# Altium schematic symbol library BSAC.SchLib: 29 symbols
Pins are listed as number, name and electrical type; pins without a type are passive.

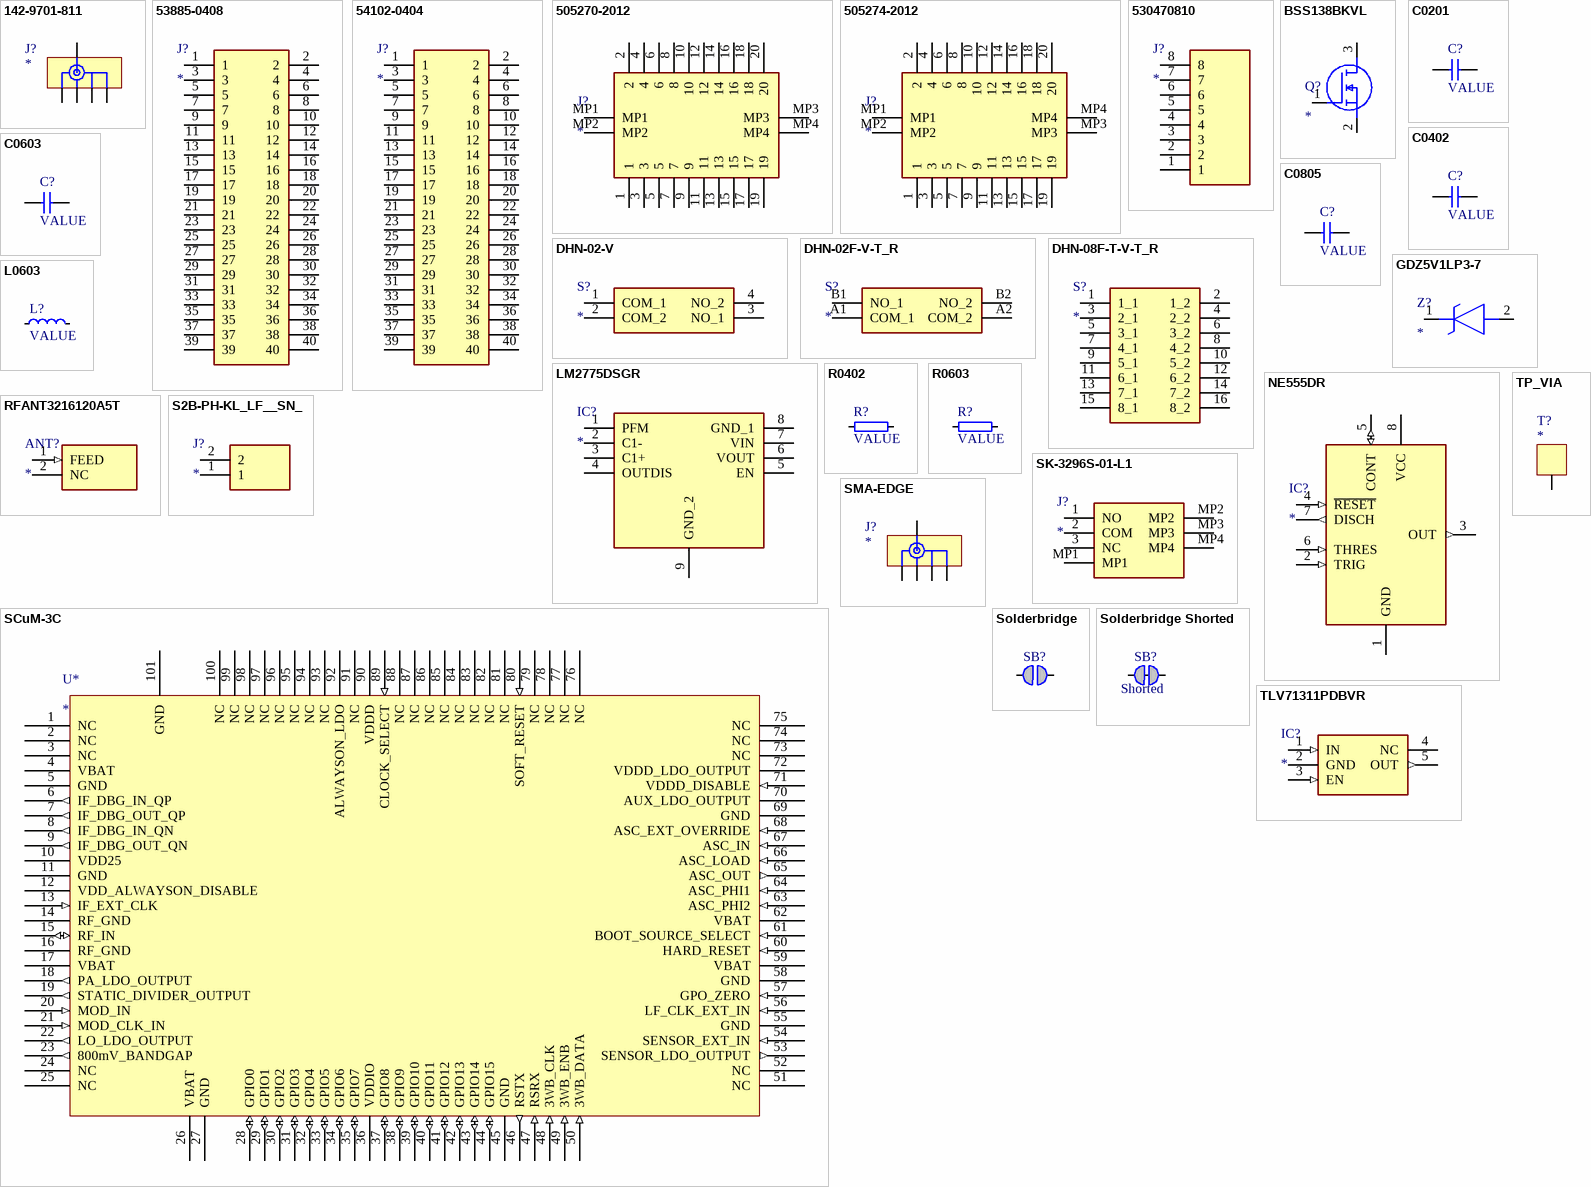
[diagram p0: symbols 142-9701-811 to TP_VIA]

## 142-9701-811
designator J?
Non-Magnetic / CONN SMA JACK STR 50OHM EDGE MNT
footprint CON-001-6.35X9.5/SMA-EDGE-SHORT-PIN
pins: 1, 2, 3, 4, 5

## 53885-0408
designator J?
0.50mm Pitch SlimStack Plug, Surface Mount, Dual Row, Vertical, 2.50mm Stack Height, without Solder Tab, 40 Circuits; Manufacturer_Name: Molex; Manufacturer_Part_Number: 53885-0408; System: Connector; Datasheet Link: https://componentsearchengine.com/Datasheets/1/53885-0408.pdf; Height: 1.68mm; Mouser Part Number: 538-53885-0408; Mouser Price/Stock: https://www.mouser.co.uk/ProductDetail/Molex/53885-0408?qs=OdNwOVlk5%2FhjFAQwfbus0w%3D%3D
footprint 538850408
pins: 1, 2, 3, 4, 5, 6, 7, 8, 9, 10, 11, 12, 13, 14, 15, 16, 17, 18, 19, 20, 21, 22, 23, 24, 25, 26, 27, 28, 29, 30, 31, 32, 33, 34, 35, 36, 37, 38, 39, 40

## 54102-0404
designator J?
0.50mm Pitch SlimStack Receptacle, Surface Mount, Dual Row, Vertical, 2.50mm Stacking Height, Gold Plating with Nickel Barrier, 40 Circuits; Manufacturer_Name: Molex; Manufacturer_Part_Number: 54102-0404; System: Connector; Datasheet Link: https://www.molex.com/pdm_docs/sd/541020404_sd.pdf; Height: 2.2mm; Mouser Part Number: 538-54102-0404; Mouser Price/Stock: https://www.mouser.co.uk/ProductDetail/Molex/54102-0404?qs=QVBMgXxBiLzLp7HESxZcuA%3D%3D
footprint 541020404
pins: 1, 2, 3, 4, 5, 6, 7, 8, 9, 10, 11, 12, 13, 14, 15, 16, 17, 18, 19, 20, 21, 22, 23, 24, 25, 26, 27, 28, 29, 30, 31, 32, 33, 34, 35, 36, 37, 38, 39, 40

## 505270-2012
designator J?
Connector; Manufacturer_Name: Molex; Manufacturer_Part_Number: 505270-2012; Datasheet Link: https://componentsearchengine.com/Datasheets/1/505270-2012.pdf; Height: 0.78mm; Mouser Part Number: 538-505270-2012; Mouser Price/Stock: https://www.mouser.co.uk/ProductDetail/Molex/505270-2012?qs=byeeYqUIh0Osc300CbctQw%3D%3D
footprint 5052702012
pins: 1, 2, 3, 4, 5, 6, 7, 8, 9, 10, 11, 12, 13, 14, 15, 16, 17, 18, 19, 20, MP1, MP2, MP3, MP4

## 505274-2012
designator J?
Connector; Manufacturer_Name: Molex; Manufacturer_Part_Number: 505274-2012; Datasheet Link: https://pl.mouser.com/datasheet/2/276/2/5052742012_PCB_HEADERS-1914541.pdf; Height: 0.75mm; Mouser Part Number: 538-505274-2012; Mouser Price/Stock: https://www.mouser.co.uk/ProductDetail/Molex/505274-2012?qs=byeeYqUIh0Pyik7DsuIGQQ%3D%3D
footprint 5052742012
pins: 1, 2, 3, 4, 5, 6, 7, 8, 9, 10, 11, 12, 13, 14, 15, 16, 17, 18, 19, 20, MP1, MP2, MP3, MP4

## 530470810
designator J?
Connector; Manufacturer_Name: Molex; Manufacturer_Part_Number: 530470810; Datasheet Link: https://www.molex.com/pdm_docs/sd/530470210_sd.pdf; Height: 4.2mm
footprint 530470810
pins: 1, 2, 3, 4, 5, 6, 7, 8

## BSS138BKVL
designator Q?
MOSFET (N-Channel); Manufacturer_Name: Nexperia; Manufacturer_Part_Number: BSS138BKVL; Datasheet Link: https://assets.nexperia.com/documents/data-sheet/BSS138BK.pdf; Height: 1.1mm; Mouser Part Number: 771-BSS138BKVL; Mouser Price/Stock: https://www.mouser.co.uk/ProductDetail/Nexperia/BSS138BKVL?qs=45Avz0nZxhsC3lw2Q7S%2FBA%3D%3D; Arrow Part Number: BSS138BKVL; Arrow Price/Stock: https://www.arrow.com/en/products/bss138bkvl/nexperia?region=europe
footprint SOT95P230X110-3N
pins: 1 G, 2 S, 3 D

## C0201
designator C?, comment VALUE
Capacitor, 0201; Part Number: C0201-0.5p; Manufacturer: N.A.; Note: 50V; Pad Count: 2; Manufacturer Part Number: N.A.; LatestRevisionDate: 2018-10-22; Published: 2014-11-13; Value: VALUE; Artikkelnr Noca: N.A.; Footprint Doc: 0201; Part number IPS: N.A.; ComponentLink1Description: Datasheet; ComponentLink1URL: N.A.; ComponentLink2Description: Supplier link; ComponentLink2URL: N.A.; HelpURL: N.A.; Supplier 1: N.A.; Supplier Part Number 1: N.A.; Supplier 2: N.A.; Supplier Part Number 2: N.A.; PartId: 100200008; Component Class: Capacitors; Author: rsk; Part number Norautron: N.A.
footprint 0201
pins: 1, 2

## C0402
designator C?, comment VALUE
Capacitor, 0402, X5R, ±20%; Part Number: C0402-4µ7; Manufacturer: N.A.; Part number IPS: 00000001251, 00000007165; Note: 10V; Artikkelnr Noca: 20039482; Pad Count: 2; Manufacturer Part Number: N.A.; LatestRevisionDate: 2017-11-09; Published: 2009-05-08; Value: VALUE; Footprint Doc: 0402; ComponentLink1Description: Datasheet; ComponentLink1URL: N.A.; ComponentLink2Description: Supplier link; ComponentLink2URL: N.A.; HelpURL: N.A.; Supplier 1: Digi-Key; Supplier Part Number 1: 490-13252-1-ND; Supplier 2: N.A.; Supplier Part Number 2: N.A.; PartId: 100200193; Component Class: Capacitors; Author: rsk; Part number Norautron: N.A.
footprint 0402
pins: 1, 2

## C0603
designator C?, comment VALUE
Capacitor, 0603, X5R, ±10%; Part Number: C0603-4µ7; Manufacturer: N.A.; Part number IPS: 00000007783; Note: 6.3V; Artikkelnr Noca: 20069060; Pad Count: 2; Manufacturer Part Number: N.A.; LatestRevisionDate: 2009-11-23; Published: 2009-05-08; Value: VALUE; Footprint Doc: 0603; ComponentLink1Description: Datasheet; ComponentLink1URL: N.A.; ComponentLink2Description: Supplier link; ComponentLink2URL: N.A.; HelpURL: N.A.; Supplier 1: N.A.; Supplier Part Number 1: N.A.; Supplier 2: N.A.; Supplier Part Number 2: N.A.; PartId: 100200274; Component Class: Capacitors; Author: rsk; Part number Norautron: N.A.
footprint 0603
pins: 1, 2

## C0805
designator C?, comment VALUE
Capacitor, 0805; Part Number: C0603-4µ7; Manufacturer: N.A.; Part number IPS: 00000007783; Note: 6.3V; Artikkelnr Noca: 20069060; Pad Count: 2; Manufacturer Part Number: N.A.; LatestRevisionDate: 2009-11-23; Published: 2009-05-08; Value: VALUE; Footprint Doc: 0603; ComponentLink1Description: Datasheet; ComponentLink1URL: N.A.; ComponentLink2Description: Supplier link; ComponentLink2URL: N.A.; HelpURL: N.A.; Supplier 1: N.A.; Supplier Part Number 1: N.A.; Supplier 2: N.A.; Supplier Part Number 2: N.A.; PartId: 100200274; Component Class: Capacitors; Author: rsk; Part number Norautron: N.A.
footprint 0805
pins: 1, 2

## DHN-02-V
designator S?
Switch; Manufacturer_Name: Diptronics; Manufacturer_Part_Number: DHN-02-V; Datasheet Link: https://componentsearchengine.com/Datasheets/1/DHN-02-V.pdf; Height: 1.65mm; Mouser Part Number: 113-DHN-02-V; Mouser Price/Stock: https://www.mouser.co.uk/ProductDetail/Diptronics/DHN-02-V?qs=gTYE2QTfZfS1rK3VAZw1uQ%3D%3D
footprint SOIC127P670X165-4N
pins: 1 COM_1, 2 COM_2, 3 NO_1, 4 NO_2

## DHN-02F-V-T_R
designator S?
Switch; Manufacturer_Name: Diptronics; Manufacturer_Part_Number: DHN-02F-V-T/R; Description: DIP Switches / SIP Switches Half Pitch Dip switch 1.6mm height; Datasheet Link: https://www.mouser.com/datasheet/2/910/377_DHNF-1571321.pdf; Height: 1.65mm; Mouser Part Number: 113-DHN02FVTR; Mouser Price/Stock: https://www.mouser.co.uk/ProductDetail/Diptronics/DHN-02F-V-T-R?qs=MLItCLRbWsyqCqWUbs6C5Q%3D%3D
footprint DHN02FVTR
pins: A1 COM_1, A2 COM_2, B1 NO_1, B2 NO_2

## DHN-08F-T-V-T_R
designator S?
Switch; Manufacturer_Name: Diptronics; Manufacturer_Part_Number: DHN-08F-T-V-T/R; Datasheet Link: https://www.mouser.com/datasheet/2/910/377_DHNF-1571321.pdf; Height: 1.53mm; Mouser Part Number: 113-DHN08FTVTR; Mouser Price/Stock: https://www.mouser.co.uk/ProductDetail/Diptronics/DHN-08F-T-V-T-R?qs=MLItCLRbWsx18ED%2FADfjTQ%3D%3D
footprint DHN08FTVTR
pins: 1 1_1, 2 1_2, 3 2_1, 4 2_2, 5 3_1, 6 3_2, 7 4_1, 8 4_2, 9 5_1, 10 5_2, 11 6_1, 12 6_2, 13 7_1, 14 7_2, 15 8_1, 16 8_2

## GDZ5V1LP3-7
designator Z?
Zener Diode; Manufacturer_Name: Diodes Incorporated; Manufacturer_Part_Number: GDZ5V1LP3-7; Datasheet Link: https://www.diodes.com//assets/Datasheets/GDZxVxLP3.pdf; Height: 0mm; Mouser Part Number: 621-GDZ5V1LP3-7; Mouser Price/Stock: https://www.mouser.co.uk/ProductDetail/Diodes-Incorporated/GDZ5V1LP3-7?qs=qY%252BJ5l%2FLT%252BQt9Mx1taPzfg%3D%3D; Arrow Part Number: GDZ5V1LP3-7; Arrow Price/Stock: https://www.arrow.com/en/products/gdz5v1lp3-7/diodes-incorporated?region=nac
footprint GDZ3V3LP37
pins: 1 K, 2 A

## L0603
designator L?, comment VALUE
Inductor, 0603; Part Number: R0201-10k; Manufacturer: N.A.; Part number IPS: 00000001255; Note: Chip Res 1%; Pad Count: 2; Manufacturer Part Number: N.A.; LatestRevisionDate: 2014-11-13; Published: 2014-11-13; Value: VALUE; Artikkelnr Noca: N.A.; Footprint Doc: 0201; ComponentLink1Description: Datasheet; ComponentLink1URL: N.A.; ComponentLink2Description: Supplier link; ComponentLink2URL: N.A.; HelpURL: N.A.; Supplier 1: N.A.; Supplier Part Number 1: N.A.; Supplier 2: N.A.; Supplier Part Number 2: N.A.; PartId: 100100065; Component Class: Resistors; Author: rsk; Part number Norautron: N.A.
footprint 0603
pins: 1, 2

## LM2775DSGR
designator IC?
Integrated Circuit; Manufacturer_Name: Texas Instruments; Manufacturer_Part_Number: LM2775DSGR; Datasheet Link: http://www.ti.com/lit/ds/symlink/lm2775.pdf; Height: 0.8mm; Mouser Part Number: 595-LM2775DSGR; Mouser Price/Stock: https://www.mouser.co.uk/ProductDetail/Texas-Instruments/LM2775DSGR?qs=GURawfaeGuBqI9Vb8ZKJyg%3D%3D; Arrow Part Number: LM2775DSGR; Arrow Price/Stock: https://www.arrow.com/en/products/lm2775dsgr/texas-instruments
footprint SON50P200X200X80-9N
pins: 1 PFM, 2 C1-, 3 C1+, 4 OUTDIS, 5 EN, 6 VOUT, 7 VIN, 8 GND_1, 9 GND_2

## NE555DR
designator IC?
Integrated Circuit; Manufacturer_Name: Texas Instruments; Manufacturer_Part_Number: NE555DR; Datasheet Link: http://www.ti.com/lit/ds/symlink/ne555.pdf; Height: 1.75mm; Mouser Part Number: 595-NE555DR; Mouser Price/Stock: https://www.mouser.com/Search/Refine.aspx?Keyword=595-NE555DR; RS Part Number: 1218414; RS Price/Stock: http://uk.rs-online.com/web/p/products/1218414
footprint SOIC127P600X175-8N
pins: 1 GND (power), 2 TRIG (in), 3 OUT (out), 4 ~{RESET} (in), 5 CONT (io), 6 THRES (in), 7 DISCH (out), 8 VCC (power)

## R0402
designator R?, comment VALUE
Resistor, 0402, ±1%, 0.05W; Part Number: R0201-10k; Manufacturer: N.A.; Part number IPS: 00000001255; Note: Chip Res 1%; Pad Count: 2; Manufacturer Part Number: N.A.; LatestRevisionDate: 2014-11-13; Published: 2014-11-13; Value: VALUE; Artikkelnr Noca: N.A.; Footprint Doc: 0201; ComponentLink1Description: Datasheet; ComponentLink1URL: N.A.; ComponentLink2Description: Supplier link; ComponentLink2URL: N.A.; HelpURL: N.A.; Supplier 1: N.A.; Supplier Part Number 1: N.A.; Supplier 2: N.A.; Supplier Part Number 2: N.A.; PartId: 100100065; Component Class: Resistors; Author: rsk; Part number Norautron: N.A.
footprint 0402
pins: 1, 2

## R0603
designator R?, comment VALUE
Resistor, 0603; Part Number: R0201-10k; Manufacturer: N.A.; Part number IPS: 00000001255; Note: Chip Res 1%; Pad Count: 2; Manufacturer Part Number: N.A.; LatestRevisionDate: 2014-11-13; Published: 2014-11-13; Value: VALUE; Artikkelnr Noca: N.A.; Footprint Doc: 0201; ComponentLink1Description: Datasheet; ComponentLink1URL: N.A.; ComponentLink2Description: Supplier link; ComponentLink2URL: N.A.; HelpURL: N.A.; Supplier 1: N.A.; Supplier Part Number 1: N.A.; Supplier 2: N.A.; Supplier Part Number 2: N.A.; PartId: 100100065; Component Class: Resistors; Author: rsk; Part number Norautron: N.A.
footprint 0603
pins: 1, 2

## RFANT3216120A5T
designator ANT?
Antenna; Manufacturer_Name: Walsin Technology Corporation; Manufacturer_Part_Number: RFANT3216120A5T; Datasheet Link: http://www.passivecomponent.com/wp-content/uploads/2013/12/ASC_RFANT3216120A5T_V09.pdf; Height: 1.3mm; Mouser Part Number: 791-RFANT3216120A5T; Mouser Price/Stock: https://www.mouser.co.uk/ProductDetail/Walsin/RFANT3216120A5T?qs=L3QzcrVjv97%252B5sRaX3g2QQ%3D%3D; Arrow Part Number: RFANT3216120A5T; Arrow Price/Stock: http://www.arrow.com/en/products/rfant3216120a5t/walsin-technology-corporation
footprint ANTC3216X130N
pins: 1 FEED (in), 2 NC

## S2B-PH-KL_LF__SN_
designator J?
Connector; Manufacturer_Name: JST (JAPAN SOLDERLESS TERMINALS); Manufacturer_Part_Number: S2B-PH-KL(LF)(SN); Datasheet Link: https://www.jst-mfg.com/product/pdf/eng/ePH.pdf; Height: 4.8mm
footprint S2BPHKLLFSN
pins: 1, 2

## SCuM-3C
designator U*
footprint SCUM3C_BareDie (SCuM-3C Bare Die package for wire bonding)
footprint QFN40P1200X1200X100_HS-101N (QFN, 100-Leads, Body 12.00x12.00mm, Pitch 0.40mm, Thermal Pad 10.10x10.10mm, IPC Medium Density)
pins: 1 NC, 2 NC, 3 NC, 4 VBAT (power), 5 GND (power), 6 IF_DBG_IN_QP (out), 7 IF_DBG_OUT_QP (out), 8 IF_DBG_IN_QN (out), 9 IF_DBG_OUT_QN (out), 10 VDD25 (power), 11 GND (power), 12 VDD_ALWAYSON_DISABLE (power), 13 IF_EXT_CLK (in), 14 RF_GND (power), 15 RF_IN (io), 16 RF_GND (power), 17 VBAT (power), 18 PA_LDO_OUTPUT (out), 19 STATIC_DIVIDER_OUTPUT (out), 20 MOD_IN (in), 21 MOD_CLK_IN (in), 22 LO_LDO_OUTPUT (out), 23 800mV_BANDGAP (out), 24 NC, 25 NC, 26 VBAT (power), 27 GND (power), 28 GPIO0 (io), 29 GPIO1 (io), 30 GPIO2 (io), 31 GPIO3 (io), 32 GPIO4 (io), 33 GPIO5 (io), 34 GPIO6 (io), 35 GPIO7 (io), 36 VDDIO (power), 37 GPIO8 (io), 38 GPIO9 (io), 39 GPIO10 (io), 40 GPIO11 (io), 41 GPIO12 (io), 42 GPIO13 (io), 43 GPIO14 (io), 44 GPIO15 (io), 45 GND (power), 46 RSTX (out), 47 RSRX (in), 48 3WB_CLK (in), 49 3WB_ENB (in), 50 3WB_DATA (in), 51 NC, 52 NC, 53 SENSOR_LDO_OUTPUT (out), 54 SENSOR_EXT_IN (in), 55 GND (power), 56 LF_CLK_EXT_IN (in), 57 GPO_ZERO (in), 58 GND (power), 59 VBAT (power), 60 HARD_RESET (in), 61 BOOT_SOURCE_SELECT (in), 62 VBAT (power), 63 ASC_PHI2 (in), 64 ASC_PHI1 (in), 65 ASC_OUT (out), 66 ASC_LOAD (in), 67 ASC_IN (in), 68 ASC_EXT_OVERRIDE (in), 69 GND (power), 70 AUX_LDO_OUTPUT (power), 71 VDDD_DISABLE (in), 72 VDDD_LDO_OUTPUT (power), 73 NC, 74 NC, 75 NC, 76 NC, 77 NC, 78 NC, 79 NC, 80 SOFT_RESET (in), 81 NC, 82 NC, 83 NC, 84 NC, 85 NC, 86 NC, 87 NC, 88 NC, 89 CLOCK_SELECT (in), 90 VDDD (power), 91 NC, 92 ALWAYSON_LDO (power), 93 NC, 94 NC, 95 NC, 96 NC, 97 NC, 98 NC, 99 NC, 100 NC, 101 GND (power)

## SK-3296S-01-L1
designator J?
Connector; Manufacturer_Name: XKB Connectivity; Manufacturer_Part_Number: SK-3296S-01-L1; Datasheet Link: https://datasheet.lcsc.com/szlcsc/XKB-SK-3296S-01-L1_C319020.pdf; Height: 1.4mm
footprint SK3296S01L1
pins: 1 NO, 2 COM, 3 NC, MP1, MP2, MP3, MP4

## SMA-EDGE
designator J?
Non-Magnetic / CONN SMA JACK STR 50OHM EDGE MNT
footprint RF2-143-T-17-50-G
pins: 1, 2, 3, 4, 5

## Solderbridge
designator SB?  (value not drawn)  (no BOM)
Manufacturer: N.A.; Pad Count: 2; Part Number: Solderbridge; Manufacturer Part Number: N.A.; Footprint Doc: Solderbridge; LatestRevisionDate: 2009-12-14; Published: 2009-12-14; Value: Solderbridge; Note: N.A.; Artikkelnr Noca: N.A.; Part number IPS: N.A.; ComponentLink1Description: Datasheet; ComponentLink1URL: N.A.; ComponentLink2Description: Supplier link; ComponentLink2URL: N.A.; HelpURL: N.A.; Supplier 1: N.A.; Supplier Part Number 1: N.A.; Supplier 2: N.A.; Supplier Part Number 2: N.A.; PartId: 100500458; Component Class: Connectors; Author: rsk; Part number Norautron: N.A.
footprint Solderbridge
pins: 1 0, 2 1

## Solderbridge Shorted
designator SB?, comment Shorted  (net tie, no BOM)
Shorted Solderbridge; Part Number: Solderbridge Shorted; Manufacturer: N.A.; Pad Count: 2; Manufacturer Part Number: N.A.; Footprint Doc: Solderbridge_Shorted; LatestRevisionDate: 2012-08-07; Published: 2012-08-07; Value: Shorted; Note: N.A.; Artikkelnr Noca: N.A.; Part number IPS: N.A.; ComponentLink1Description: Datasheet; ComponentLink1URL: N.A.; ComponentLink2Description: Supplier link; ComponentLink2URL: N.A.; HelpURL: N.A.; Supplier 1: N.A.; Supplier Part Number 1: N.A.; Supplier 2: N.A.; Supplier Part Number 2: N.A.; PartId: 100500459; Component Class: Connectors; Author: rsk; Part number Norautron: N.A.
footprint Solderbridge_Shorted
pins: 1 0, 2 1

## TLV71311PDBVR
designator IC?
Integrated Circuit; Manufacturer_Name: Texas Instruments; Manufacturer_Part_Number: TLV71311PDBVR; Datasheet Link: http://www.ti.com/lit/gpn/tlv713p; Height: 1.45mm; Mouser Part Number: 595-TLV71311PDBVR; Mouser Price/Stock: https://www.mouser.com/Search/Refine.aspx?Keyword=595-TLV71311PDBVR; Arrow Part Number: TLV71311PDBVR; Arrow Price/Stock: https://www.arrow.com/en/products/tlv71311pdbvr/texas-instruments
footprint SOT95P280X145-5N
pins: 1 IN (in), 2 GND (power), 3 EN (in), 4 NC, 5 OUT (out)

## TP_VIA
designator T?
Test point 1 pin
footprint TP_VIA_1MM
pins: 1